# EAGLE library part FT232BL (library FT232BL)
FT232BL MODULE
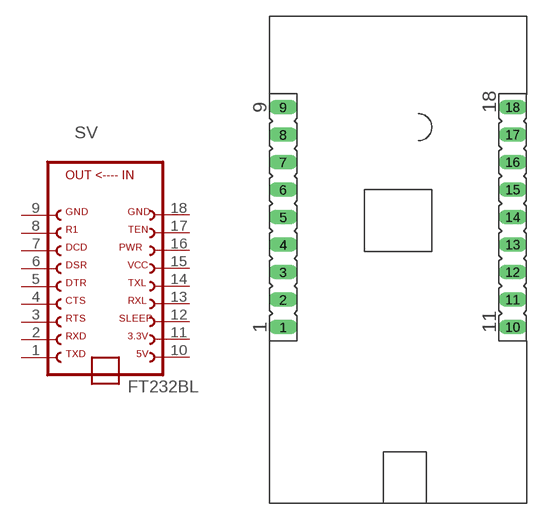
[diagram p0: symbol with the pads of FT232BL; footprint FT232BL]

Designator prefix SV

## FT232BL (OC_FARNELL: unknown; OC_NEWARK: unknown)  [FT232BL]
1  1  pas
2  2  pas
3  3  pas
4  4  pas
5  5  pas
6  6  pas
7  7  pas
8  8  pas
9  9  pas
10  10  pas
11  11  pas
12  12  pas
13  13  pas
14  14  pas
15  15  pas
16  16  pas
17  17  pas
18  18  pas

## Footprint FT232BL (pad centres in mm)
FT232BL MODULE
drill 0.813 long: 1 1.27,1.27; 2 1.27,3.81; 3 1.27,6.35; 4 1.27,8.89; 5 1.27,11.43; 6 1.27,13.97; 7 1.27,16.51; 8 1.27,19.05; 9 1.27,21.59; 10 22.47,1.27; 11 22.47,3.81; 12 22.47,6.35; 13 22.47,8.89; 14 22.47,11.43; 15 22.47,13.97; 16 22.47,16.51; 17 22.47,19.05; 18 22.47,21.59